# Altium footprint library RJ-45_BelFuse_L8341GITS7_pcb.PcbLib: 1 footprints
Each footprint in its own frame and in the unit in brackets; x right, y up, seen from the top. Pads: shape width x height; smd on the part's side, far side on the other; paste and mask are expansions set on the pad; w line width, h text height; cw(c..) or ccw(c..) is an arc to the next point about the centre after c.
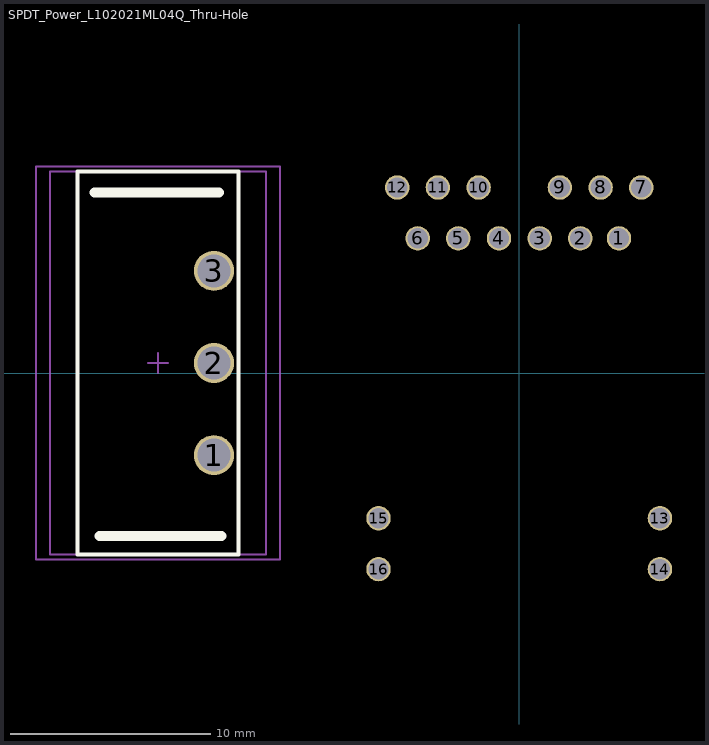
[diagram p0: the footprint, top view; thin cyan lines are the x and y axes]

## SPDT_Power_L102021ML04Q_Thru-Hole [mm]
height 12.4
pads (19):
  round 2 hole 1.65: 1(-15.24,-4.092) 2(-15.24,0.508) 3(-15.24,5.108)
  round 1.22 hole 1.02: 1(4.979,6.73) 2(3.049,6.73) 3(1.019,6.73) 4(-1.011,6.73) 5(-3.041,6.73) 6(-5.071,6.73) 7(6.09,9.27) 8(4.06,9.27) 9(2.03,9.27) 10(-2.03,9.27) 11(-4.06,9.27) 12(-6.09,9.27) 13(7.025,-7.24) 14(7.025,-9.78) 15(-7.025,-7.24) 16(-7.025,-9.78)
Top Overlay:
  lines w0.2: -22.059,-9.042 -14.009,-9.042 -14.009,10.058 -22.059,10.058 -22.059,-9.042
  lines w0.5: -21.209,9.017 -14.986,9.017 ; -20.955,-8.128 -14.859,-8.128
Mechanical 13:
  lines w0.1: -23.429,-9.042 -12.639,-9.042 -12.639,10.058 -23.429,10.058 -23.429,-9.042
Mechanical 15:
  lines w0.1: -18.534,0.508 -17.534,0.508 ; -18.034,0.008 -18.034,1.008 ; -24.134,-9.292 -11.934,-9.292 -11.934,10.308 -24.134,10.308 -24.134,-9.292
3D body: height 12.4, standoff 0, extent -23.429,-9.042 -12.639,10.058